# EAGLE library part 25AA1024-I/MF (library Microchip_By_element14_Batch_1)
1 Mbit SPI Bus Serial EEPROM
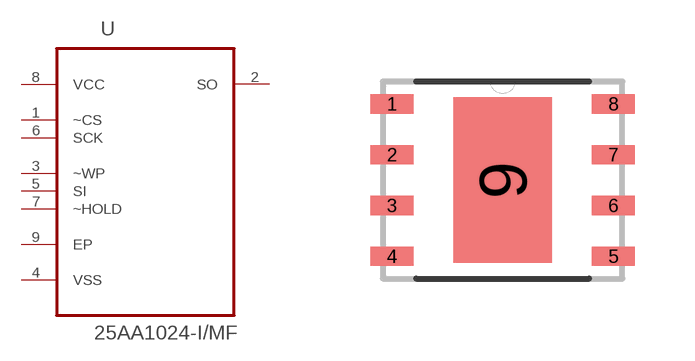
[diagram p117: symbol with the pads of DFN492X599X100-9N; footprint DFN492X599X100-9N]

Designator prefix -

## 25AA1024-I/MF (DESCRIPTION: EEPROM; MPN: 25AA1024-I/MF; OC_FARNELL: 1617312; OC_NEWARK: 89H3143; PACKAGE: DFN-8; SUPPLIER: Microchip)  [DFN492X599X100-9N]
1  ~CS  in
2  SO  out
3  ~WP  in
4  VSS  pas
5  SI  in
6  SCK  in
7  ~HOLD  in
8  VCC  pwr
9  EP  pas

## Footprint DFN492X599X100-9N (pad centres in mm)
smd 1.067 x 0.483: 1 -2.769,1.905; 2 -2.769,0.635; 3 -2.769,-0.635; 4 -2.769,-1.905; 5 2.769,-1.905; 6 2.769,-0.635; 7 2.769,0.635; 8 2.769,1.905
smd 2.464 x 4.14: 9 0,0